# Altium schematic symbol library quartz_crystals_and_filters.SchLib: 17 symbols
Pins are listed as number, name and electrical type; pins without a type are passive.

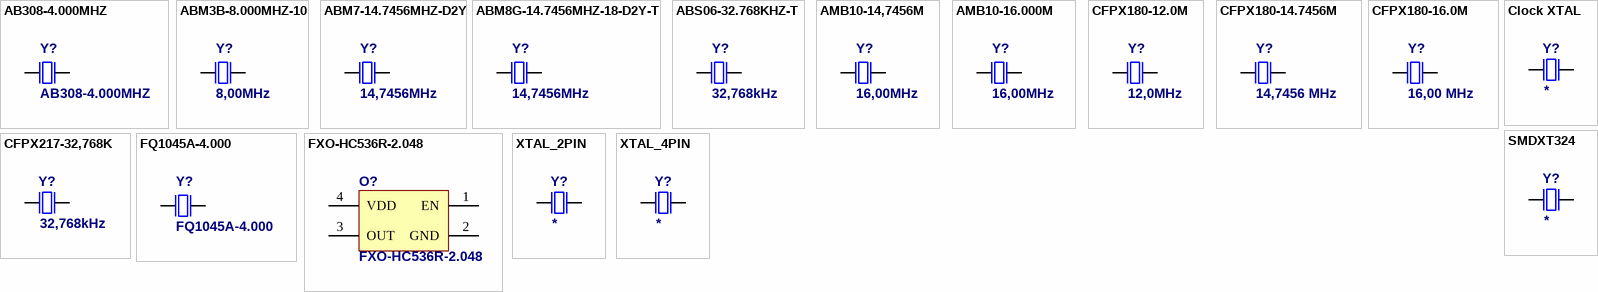
[diagram p0: symbols AB308-4.000MHZ to XTAL_4PIN]

## AB308-4.000MHZ
designator Y?
4MHz (+/-30ppm), CL=16pF, Cylindric Can: 3x8mm; Supplier 1: Digi-Key; Supplier 2: Mouser; Supplier 3: Digi-Key; Supplier Part Number 1: 535-14119-ND; Supplier Part Number 2: 815-AB308-4.000; Supplier Part Number 3: AB308-4.000MHZ-ND
footprint TC38_3x8_H (THT TC38 (Size: 3x8mm) Horizontal Mounted Crystal Oscillator)
footprint TC38_3x8_H_SMD (SMD TC38 (Size: 3x8mm) Horizontal Mounted Crystal Oscillator)
footprint TC38_3x8_V (THT TC38 (Size: 3x8mm) Vertical Mounted Crystal Oscillator)
footprint TC38_3x8_V_WIDE (THT TC38 (Size: 3x8mm) Vertical Mounted (Wide) Crystal Oscillator)
pins: 1 OSC1, 2 OSC2

## ABM3B-8.000MHZ-10
designator Y?, comment 8,00MHz
8,000MHz (+/- 10ppm), 5,0 x 3,2mm x 1,1mm SMD Crystal; Value: 8,00MHz
footprint ABM3B (Quartz Crystal, SMD; Body 5,0 x 3,2 mm (LxW max))
pins: 1 OSC1, 2 GND hidden to GND, 3 OSC2, 4 GND hidden to GND
1 alternate drawing of the same symbol

## ABM7-14.7456MHZ-D2Y
designator Y?, comment 14,7456MHz
14,7456MHz (+/- 20ppm), 6.0 x 3.5mm x 1.4mm SMD Crystal; Value: 14,7456MHz; Supplier 1: Farnell; Supplier 2: Farnell; Supplier 3: TME; Supplier 4: Farnell; Supplier 5: Farnell; Supplier Part Number 1: 2467823; Supplier Part Number 2: 1812374; Supplier Part Number 3: ABM7-14.7456MHZD2Y; Supplier Part Number 4: 2467823RL; Supplier Part Number 5: 1836155
footprint ABM7 (ABM7 Quartz Crystal, SMD; Body 6 x 3,5 x 1,4 mm)
pins: 1 OSC1, 2 OSC2

## ABM8G-14.7456MHZ-18-D2Y-T
designator Y?, comment 14,7456MHz
14,7456MHz (+/- 50ppm), 3,5 x 2,5mm x 1,0mm SMD Crystal; Value: 14,7456MHz
footprint ABM8 (Quartz Crystal, SMD; Body 3.2 x 2.5 mm (LxW max), e.g. CFPX-5 (XT-324))
pins: 1 OSC1, 2 GND hidden to GND, 3 OSC2, 4 GND hidden to GND
1 alternate drawing of the same symbol

## ABS06-32.768KHZ-T
designator Y?, comment 32,768kHz
32,768kHz (+/- 20ppm), 2.0 x 1.2mm SMD Crystal
footprint ABS06 (Quartz Crystal, SM; Body 2.0 x 1.2 mm (LxW max))
pins: 1 OSC1, 2 OSC2
1 alternate drawing of the same symbol

## AMB10-14,7456M
designator Y?, comment 16,00MHz
14,7456MHz (+/- 20ppm), 3.2 x 2.5mm SMD Crystal; Value: 16,00MHz
footprint ABM10 (ABM10 Quartz Crystal, SMD; Body 2,5 x 2,0 x 0,5 mm)
pins: 1 OSC1, 2 GND hidden to GND, 3 OSC2, 4 GND hidden to GND

## AMB10-16.000M
designator Y?, comment 16,00MHz
16,000MHz (+/- 30ppm), 3.2 x 2.5mm SMD Crystal; Value: 16,00MHz
footprint ABM10 (ABM10 Quartz Crystal, SMD; Body 2,5 x 2,0 x 0,5 mm)
pins: 1 OSC1, 2 GND hidden to GND, 3 OSC2, 4 GND hidden to GND

## CFPX180-12.0M
designator Y?, comment 12,0MHz
12,0MHz (+/- 10ppm), 3.2 x 2.5mm SMD Crystal; Value: 12,0MHz; Supplier 1: TME; Supplier Part Number 1: 12.00M-CFPX180
footprint 3,2x2,5x0,8mm (Quartz Crystal, SMD; Body 3.2 x 2.5 mm (LxW max), e.g. CFPX-5 (XT-324))
pins: 1 OSC1, 2 GND hidden to GND, 3 OSC2, 4 GND hidden to GND

## CFPX180-14.7456M
designator Y?, comment 14,7456 MHz
14,7456MHz (+/- 20ppm), 3.2 x 2.5mm SMD Crystal; Value: 14,7456 MHz; Supplier 1: TME; Supplier Part Number 1: 14.7456M-CFPX180
footprint 3,2x2,5x0,8mm (Quartz Crystal, SMD; Body 3.2 x 2.5 mm (LxW max), e.g. CFPX-5 (XT-324))
pins: 1 OSC1, 2 GND hidden to GND, 3 OSC2, 4 GND hidden to GND

## CFPX180-16.0M
designator Y?, comment 16,00 MHz
16,000MHz (+/- 30ppm), 3.2 x 2.5mm SMD Crystal; Value: 16,00 MHz; Supplier 1: TME; Supplier Part Number 1: 16.00M-CFPX180
footprint 3,2x2,5x0,8mm (Quartz Crystal, SMD; Body 3.2 x 2.5 mm (LxW max), e.g. CFPX-5 (XT-324))
pins: 1 OSC1, 2 GND hidden to GND, 3 OSC2, 4 GND hidden to GND

## CFPX217-32,768K
designator Y?, comment 32,768kHz
32,758kHz (+/- 20ppm), CL=12.5pF, 3.2 x 1.5mm SMD Crysta; ComponentLink1Description: datasheet; ComponentLink2Description: supplier; Value: 32,768kHz
footprint ABS07 (Quartz Crystal, SM; Body 3.2 x 1.5 mm (LxW max))
pins: 1 OSC1, 2 OSC2

## Clock XTAL
designator Y?
Crystal Clock Oscillator; ComponentLink1Description: datasheet; ComponentLink2Description: supplier; Value: *
footprint 85SMX (85SMX, 5.5mm lead spacing (IQD Frequency Products))
footprint TC38_2x6_H_SMD (SMD TC38 (Size: 2x6mm) Horizontal Mounted Crystal Oscillator)
footprint TC38_2x6_V (THT TC38 (Size: 2x6mm) Vertical Mounted Crystal Oscillator)
footprint TC38_3x8_H (THT TC38 (Size: 3x8mm) Horizontal Mounted Crystal Oscillator)
footprint TC38_3x8_H_SMD (SMD TC38 (Size: 3x8mm) Horizontal Mounted Crystal Oscillator)
footprint TC38_3x8_V (THT TC38 (Size: 3x8mm) Vertical Mounted Crystal Oscillator)
footprint TC38_3x8_V_WIDE (THT TC38 (Size: 3x8mm) Vertical Mounted (Wide) Crystal Oscillator)
pins: 1 OSC1, 2 OSC2

## FQ1045A-4.000
designator Y?
4MHz (+/-30ppm), CL=10pF, 10x4.5x1.7mm; Supplier 1: Farnell; Supplier 2: Farnell; Supplier Part Number 1: 1641056; Supplier Part Number 2: 2370328
footprint FQ1045A (FOX 10x4.5x1.7mm Resin Sealed SMD Crystal)
pins: 1 OSC1, 2 OSC2

## FXO-HC536R-2.048
designator O?
Fox Electronics, 2.048MHZ, 3.2x5mm, SMD Oscillator
footprint FXO-HC536R (Fox Electronics HCMOS, CERAMIC, SMD, OSCILLATOR)
footprint FXO-HC536R_M (Fox Electronics HCMOS, CERAMIC, SMD, OSCILLATOR)
pins: 1 EN, 2 GND, 3 OUT, 4 VDD

## SMDXT324
designator Y?
Crystal Oscillator; ComponentLink1Description: datasheet; ComponentLink2Description: supplier; Value: *
footprint 3,2x2,5x0,8mm (Quartz Crystal, SMD; Body 3.2 x 2.5 mm (LxW max), e.g. CFPX-5 (XT-324))
pins: 1 OSC1, 3 OSC2

## XTAL_2PIN
designator Y?
Crystal Oscillator; ComponentLink1Description: datasheet; ComponentLink2Description: supplier; Value: *
footprint HC49 (Crystal Oscillator)
footprint HC49-S (Crystal Oscillator)
footprint HC49/4H (Crystal Oscillator)
footprint SMD 12SMX A (SMD crystal oscillator size A)
footprint SMD 91SMX (SMD crystal oscillator size 91SMX)
footprint HC49 (Crystal Oscillator)
footprint HC49-S (Crystal Oscillator)
footprint HC49/4H (Crystal Oscillator)
footprint SMD 12SMX A (SMD crystal oscillator size A)
footprint SMD 91SMX (SMD crystal oscillator size 91SMX)
footprint 5,0x3,2x1,2mm (Quartz Crystal, SMD; Body 5,0 x 3,2 mm (LxW max), e.g. Farnell 1841957)
pins: 1 OSC1, 2 OSC2

## XTAL_4PIN
designator Y?
Crystal Oscillator; ComponentLink1Description: datasheet; ComponentLink2Description: supplier; Value: *
footprint 3,2x2,5x0,8mm (Quartz Crystal, SMD; Body 3.2 x 2.5 mm (LxW max), e.g. CFPX-5 (XT-324))
footprint 5,0x3,2x0,9mm (Quartz Crystal, SMD; Body 5,0 x 3,2 mm (LxW max), e.g. Farnell 1842001)
pins: 1 OSC1, 3 OSC2